# EAGLE library part UPA2753GR (library dual-channel-mos-fet)
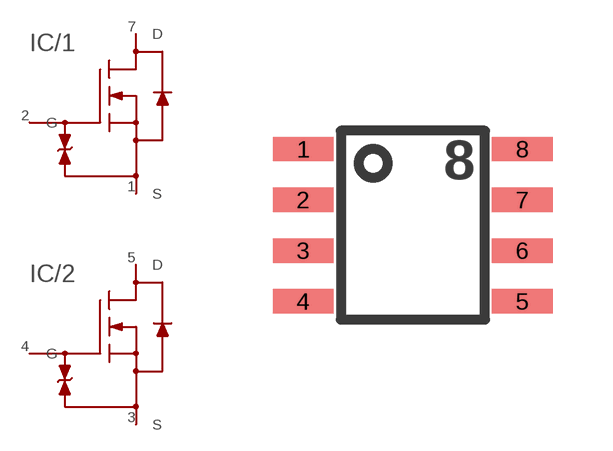
[diagram p0: symbol with the pads of SOP-8; footprint SOP-8]

Designator prefix IC; gates /1=N-CHANNEL_MOS_FET /2=N-CHANNEL_MOS_FET

## UPA2753GR  [SOP-8]
1  /1:S  out
2  /1:G  in
3  /2:S  out
4  /2:G  in
5  /2:D  in
7  /1:D  in

## Footprint SOP-8 (pad centres in mm)
SO 8 small outline
smd 1.524 x 0.61: 1 -2.743,1.27; 2 -2.743,0; 3 -2.743,-1.27; 4 -2.743,-2.54; 5 2.743,-2.54; 6 2.743,-1.27; 7 2.743,0; 8 2.743,1.27